# EAGLE library part CLRC63201T/0FE,112 (library NXP_By_element14_Batch_1)
Multiple protocol contactless reader IC
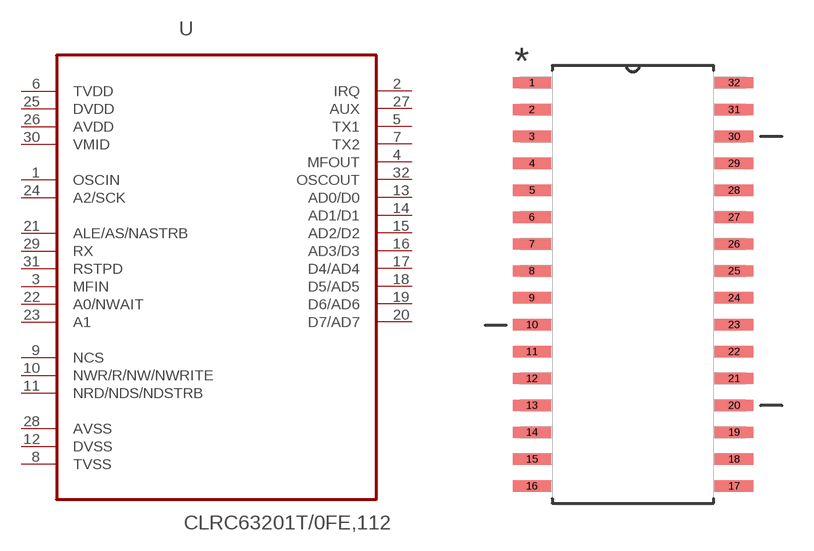
[diagram p237: symbol with the pads of SOIC127P1032X265-32N; footprint SOIC127P1032X265-32N]

Designator prefix U

## CLRC63201T/0FE,112 (MPN: CLRC63201T/0FE,112; OC_FARNELL: -; OC_NEWARK: 70R4997; PACKAGE: SOIC-32; SUPPLIER: NXP)  [SOIC127P1032X265-32N]
1  OSCIN  in
2  IRQ  out
3  MFIN  in
4  MFOUT  out
5  TX1  out
6  TVDD  pwr
7  TX2  out
8  TVSS  pas
9  NCS  in
10  NWR/R/NW/NWRITE  in
11  NRD/NDS/NDSTRB  in
12  DVSS  pas
13  AD0/D0
14  AD1/D1
15  AD2/D2
16  AD3/D3
17  D4/AD4
18  D5/AD5
19  D6/AD6
20  D7/AD7
21  ALE/AS/NASTRB  in
22  A0/NWAIT
23  A1  in
24  A2/SCK  in
25  DVDD  pwr
26  AVDD  pwr
27  AUX  out
28  AVSS  pas
29  RX  in
30  VMID  pwr
31  RSTPD  in
32  OSCOUT  out

## Footprint SOIC127P1032X265-32N (pad centres in mm)
smd 1.803 x 0.533: 1 -4.775,9.525; 2 -4.775,8.255; 3 -4.775,6.985; 4 -4.775,5.715; 5 -4.775,4.445; 6 -4.775,3.175; 7 -4.775,1.905; 8 -4.775,0.635; 9 -4.775,-0.635; 10 -4.775,-1.905; 11 -4.775,-3.175; 12 -4.775,-4.445; 13 -4.775,-5.715; 14 -4.775,-6.985; 15 -4.775,-8.255; 16 -4.775,-9.525; 17 4.775,-9.525; 18 4.775,-8.255; 19 4.775,-6.985; 20 4.775,-5.715; 21 4.775,-4.445; 22 4.775,-3.175; 23 4.775,-1.905; 24 4.775,-0.635; 25 4.775,0.635; 26 4.775,1.905; 27 4.775,3.175; 28 4.775,4.445; 29 4.775,5.715; 30 4.775,6.985; 31 4.775,8.255; 32 4.775,9.525